# Altium footprint library FPGA_Automotive_Radar_PcbLib.PcbLib: 28 footprints (part 2 of 2)
Each footprint in its own frame and in the unit in brackets; x right, y up, seen from the top. Pads: shape width x height; smd on the part's side, far side on the other; paste and mask are expansions set on the pad; w line width, h text height; cw(c..) or ccw(c..) is an arc to the next point about the centre after c.
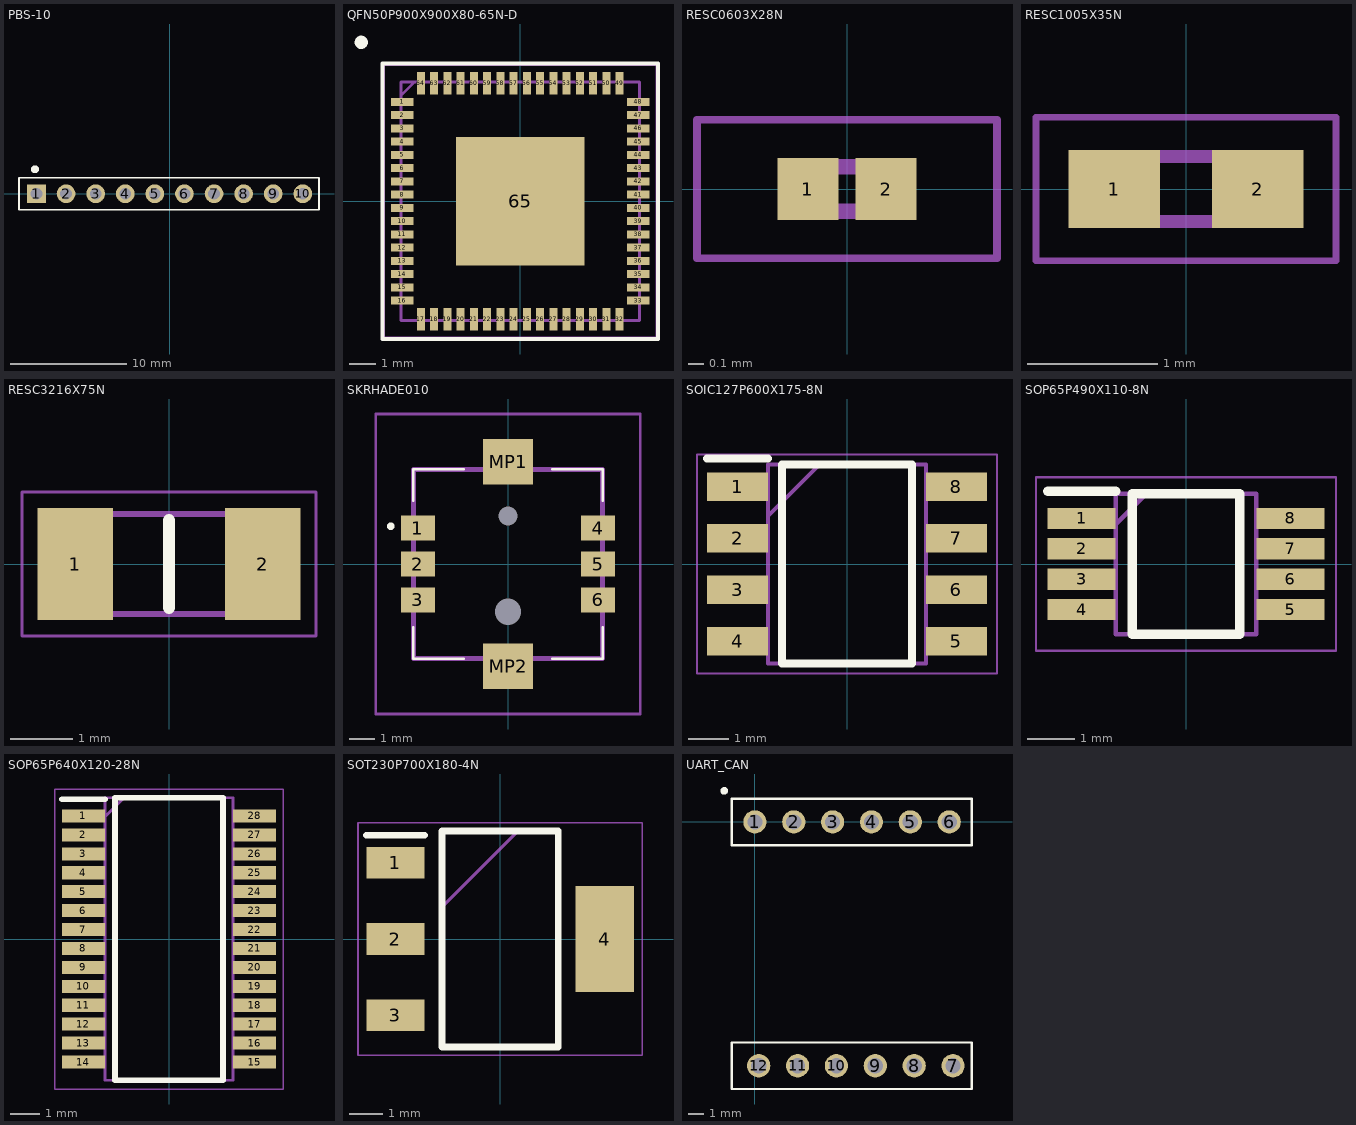
[diagram p1: the footprints below, top view; thin cyan lines are the x and y axes]

## MOLEX [mm]

## PBS-10 [mm]
pads (10):
  rect 1.6x1.6 hole 1: 1(-11.43,0)
  round 1.6 hole 1: 2(-8.89,0) 3(-6.35,0) 4(-3.81,0) 5(-1.27,0) 6(1.27,0) 7(3.81,0) 8(6.35,0) 9(8.89,0) 10(11.43,0)
Top Overlay:
  circle w0.5: c-11.555,2.1 r0.09
  lines w0.15: -12.93,-1.375 -12.93,1.25 -12.93,1.375 1.82,1.375 2.82,1.375 7.82,1.375 12.82,1.375 12.82,-1.375 7.82,-1.375 2.82,-1.375 -12.93,-1.375
3D body "PBS-10.step": height 8.41, standoff -3.19, extent -12.7,-1.27 12.7,1.27

## QFN50P900X900X80-65N-D [mm]
pads (65):
  rect 0.85x0.3 smd: 1(-4.45,3.75) 2(-4.45,3.25) 3(-4.45,2.75) 4(-4.45,2.25) 5(-4.45,1.75) 6(-4.45,1.25) 7(-4.45,0.75) 8(-4.45,0.25) 9(-4.45,-0.25) 10(-4.45,-0.75) 11(-4.45,-1.25) 12(-4.45,-1.75) 13(-4.45,-2.25) 14(-4.45,-2.75) 15(-4.45,-3.25) 16(-4.45,-3.75) 33(4.45,-3.75) 34(4.45,-3.25) 35(4.45,-2.75) 36(4.45,-2.25) 37(4.45,-1.75) 38(4.45,-1.25) 39(4.45,-0.75) 40(4.45,-0.25) 41(4.45,0.25) 42(4.45,0.75) 43(4.45,1.25) 44(4.45,1.75) 45(4.45,2.25) 46(4.45,2.75) 47(4.45,3.25) 48(4.45,3.75)
  rect 0.3x0.85 smd: 17(-3.75,-4.45) 18(-3.25,-4.45) 19(-2.75,-4.45) 20(-2.25,-4.45) 21(-1.75,-4.45) 22(-1.25,-4.45) 23(-0.75,-4.45) 24(-0.25,-4.45) 25(0.25,-4.45) 26(0.75,-4.45) 27(1.25,-4.45) 28(1.75,-4.45) 29(2.25,-4.45) 30(2.75,-4.45) 31(3.25,-4.45) 32(3.75,-4.45) 49(3.75,4.45) 50(3.25,4.45) 51(2.75,4.45) 52(2.25,4.45) 53(1.75,4.45) 54(1.25,4.45) 55(0.75,4.45) 56(0.25,4.45) 57(-0.25,4.45) 58(-0.75,4.45) 59(-1.25,4.45) 60(-1.75,4.45) 61(-2.25,4.45) 62(-2.75,4.45) 63(-3.25,4.45) 64(-3.75,4.45)
  rect 4.85x4.85 smd: 65(0,0)
Top Overlay:
  circle w0.25: c-6,6 r0.125
  lines w0.15: -5.2,-5.2 5.2,-5.2 5.2,5.2 -5.2,5.2 -5.2,4.7 -5.2,-5.2
Mechanical 13:
  lines w0.1: -4.5,4 -4,4.5 ; -4.5,-4.5 -4.5,4.5 4.5,4.5 4.5,-4.5 -4.5,-4.5
Mechanical 15:
  lines w0.05: -5.125,-5.125 -5.125,5.125 5.125,5.125 5.125,-5.125 -5.125,-5.125
3D body "AD9238BCPZRL-65.stp": height 0.8, standoff 0, extent -4.55,-4.55 4.55,4.55

## RESC0603X28N [mm]
pads (2):
  rect 0.396x0.4 smd: 1(-0.254,0) 2(0.254,0)
Mechanical 13:
  lines w0.1: -0.29,-0.145 -0.29,0.145 0.29,0.145 0.29,-0.145 -0.29,-0.145
Mechanical 15:
  lines w0.05: -0.975,-0.45 -0.975,0.45 0.975,0.45 0.975,-0.45 -0.975,-0.45
3D body "CPF0201D4K99E1.stp": height 0.24, standoff 0, extent -0.29,-0.145 0.29,0.145

## RESC1005X35N [mm]
pads (2):
  rect 0.7x0.6 smd: 1(-0.55,0) 2(0.55,0)
Mechanical 13:
  lines w0.1: -0.5,-0.25 0.5,-0.25 0.5,0.25 -0.5,0.25 -0.5,-0.25
Mechanical 15:
  lines w0.05: -1.15,-0.55 1.15,-0.55 1.15,0.55 -1.15,0.55 -1.15,-0.55
3D body "CPF0402B100KE.stp": height 0.35, standoff 0, extent -0.5,-0.25 0.5,0.25

## RESC3216X75N [mm]
pads (2):
  rect 1.2x1.8 smd: 1(-1.5,0) 2(1.5,0)
Top Overlay:
  lines w0.2: 0,-0.7 0,0.7
Mechanical 13:
  lines w0.1: -1.6,-0.8 -1.6,0.8 1.6,0.8 1.6,-0.8 -1.6,-0.8
Mechanical 15:
  lines w0.05: -2.35,-1.15 -2.35,1.15 2.35,1.15 2.35,-1.15 -2.35,-1.15
3D body "CR1206-F_-2R00ELF.stp": height 0.75, standoff 0, extent -1.6,-0.8 1.6,0.8

## SKRHADE010 [mm]
pads (10):
  rect 1.35x1 smd: 1(-3.575,1.425) 2(-3.575,0) 3(-3.575,-1.425) 4(3.575,1.425) 5(3.575,0) 6(3.575,-1.425)
  round 0.375 hole 0.75 unplated: MH1(0,1.9)
  round 0.525 hole 1.05 unplated: MH2(0,-1.9)
  rect 2x1.8 smd: MP1(0,4.05) MP2(0,-4.05)
Top Overlay:
  lines w0.1: -3.75,-3.75 -1.75,-3.75 -3.75,-3.75 ; -3.75,-3.75 -3.75,-2.5 -3.75,-3.75 ; -3.75,3.75 -3.75,2.5 -3.75,3.75 ; -3.75,3.75 -1.75,3.75 -3.75,3.75 ; 3.75,-3.75 3.75,-2.5 3.75,-3.75 ; 3.75,-3.75 1.75,-3.75 3.75,-3.75 ; 3.75,3.75 3.75,2.5 3.75,3.75 ; 3.75,3.75 1.75,3.75 3.75,3.75
  lines w0.2: -4.7,1.5 cw(c-4.65,1.5) -4.6,1.5 ; -4.7,1.5 ccw(c-4.65,1.5) -4.6,1.5 ; -4.7,1.5 -4.6,1.5
Mechanical 13:
  lines w0.2: -3.75,-3.75 -3.75,3.75 3.75,3.75 3.75,-3.75 -3.75,-3.75
Mechanical 15:
  lines w0.1: -5.25,-5.95 -5.25,5.95 5.25,5.95 5.25,-5.95 -5.25,-5.95
3D body "SKRHADE010.stp": height 5.07, standoff -0.43, extent -3.741,-3.75 3.741,3.75

## SOIC127P600X175-8N [mm]
pads (8):
  rect 1.5x0.7 smd: 1(-2.7,1.905) 2(-2.7,0.635) 3(-2.7,-0.635) 4(-2.7,-1.905) 5(2.7,-1.905) 6(2.7,-0.635) 7(2.7,0.635) 8(2.7,1.905)
Top Overlay:
  lines w0.2: -3.45,2.605 -1.95,2.605 ; -1.6,-2.45 1.6,-2.45 1.6,2.45 -1.6,2.45 -1.6,-2.45
Mechanical 13:
  lines w0.1: -1.95,1.18 -0.68,2.45 ; -1.95,-2.45 1.95,-2.45 1.95,2.45 -1.95,2.45 -1.95,-2.45
Mechanical 15:
  lines w0.05: -3.7,-2.7 3.7,-2.7 3.7,2.7 -3.7,2.7 -3.7,-2.7
3D body "EPCS16SI8N.stp": height 1.75, standoff 0, extent -3,-2.45 3,2.45

## SOP65P490X110-8N [mm]
pads (8):
  rect 1.45x0.45 smd: 1(-2.225,0.975) 2(-2.225,0.325) 3(-2.225,-0.325) 4(-2.225,-0.975) 5(2.225,-0.975) 6(2.225,-0.325) 7(2.225,0.325) 8(2.225,0.975)
Top Overlay:
  lines w0.2: -2.95,1.55 -1.5,1.55 ; -1.15,-1.5 -1.15,1.5 1.15,1.5 1.15,-1.5 -1.15,-1.5
Mechanical 13:
  lines w0.1: -1.5,0.85 -0.85,1.5 ; -1.5,-1.5 -1.5,1.5 1.5,1.5 1.5,-1.5 -1.5,-1.5
Mechanical 15:
  lines w0.05: -3.2,-1.85 -3.2,1.85 3.2,1.85 3.2,-1.85 -3.2,-1.85
3D body "AD8132ARMZ.stp": height 1.1, standoff 0, extent -2.45,-1.5 2.45,1.5

## SOP65P640X120-28N [mm]
pads (28):
  rect 1.475x0.45 smd: 1(-2.938,4.225) 2(-2.938,3.575) 3(-2.938,2.925) 4(-2.938,2.275) 5(-2.938,1.625) 6(-2.938,0.975) 7(-2.938,0.325) 8(-2.938,-0.325) 9(-2.938,-0.975) 10(-2.938,-1.625) 11(-2.938,-2.275) 12(-2.938,-2.925) 13(-2.938,-3.575) 14(-2.938,-4.225) 15(2.938,-4.225) 16(2.938,-3.575) 17(2.938,-2.925) 18(2.938,-2.275) 19(2.938,-1.625) 20(2.938,-0.975) 21(2.938,-0.325) 22(2.938,0.325) 23(2.938,0.975) 24(2.938,1.625) 25(2.938,2.275) 26(2.938,2.925) 27(2.938,3.575) 28(2.938,4.225)
Top Overlay:
  lines w0.2: -3.675,4.8 -2.2,4.8 ; -1.85,-4.85 -1.85,4.85 1.85,4.85 1.85,-4.85 -1.85,-4.85
Mechanical 13:
  lines w0.1: -2.2,4.2 -1.55,4.85 ; -2.2,-4.85 -2.2,4.85 2.2,4.85 2.2,-4.85 -2.2,-4.85
Mechanical 15:
  lines w0.05: -3.925,-5.15 -3.925,5.15 3.925,5.15 3.925,-5.15 -3.925,-5.15
3D body "AD9764ARUZ.stp": height 1.2, standoff 0, extent -3.2,-4.85 3.2,4.85

## SOT230P700X180-4N [mm]
pads (4):
  rect 1.75x0.95 smd: 1(-3.15,2.3) 2(-3.15,0) 3(-3.15,-2.3)
  rect 1.75x3.2 smd: 4(3.15,0)
Top Overlay:
  lines w0.2: -4.025,3.125 -2.275,3.125 ; -1.75,-3.25 -1.75,3.25 1.75,3.25 1.75,-3.25 -1.75,-3.25
Mechanical 13:
  lines w0.1: -1.75,0.95 0.55,3.25 ; -1.75,-3.25 -1.75,3.25 1.75,3.25 1.75,-3.25 -1.75,-3.25
Mechanical 15:
  lines w0.05: -4.275,-3.5 -4.275,3.5 4.275,3.5 4.275,-3.5 -4.275,-3.5
3D body "ADP3338AKCZ-3.3-RL.stp": height 1.8, standoff 0, extent -3.5,-3.25 3.5,3.25

## UART_CAN [mm]
pads (12):
  round 1.524 hole 1: 1(0,0) 2(2.55,0) 3(5.1,0) 4(7.65,0) 5(10.2,0) 6(12.75,0) 7(13,-16) 8(10.45,-16) 9(7.9,-16) 10(5.35,-16) 11(2.8,-16) 12(0.25,-16)
Top Overlay:
  circle w0.25: c-2.012,2.038 r0.125
  lines w0.15: -1.524,-17.526 14.224,-17.526 14.224,-14.478 -1.524,-14.478 -1.524,-17.526 ; -1.524,-1.524 -1.524,1.524 14.224,1.524 14.224,-1.524 -1.524,-1.524
3D body "1x6.STEP": height 8.5, standoff -9.14, extent -1.27,-1.27 13.97,1.27
3D body "1x6.STEP": height 8.5, standoff -9.14, extent -1.27,-17.272 13.97,-14.732